# Altium schematic symbol library Diodes.Schlib: 9 symbols
Pins are listed as number, name and electrical type; pins without a type are passive.

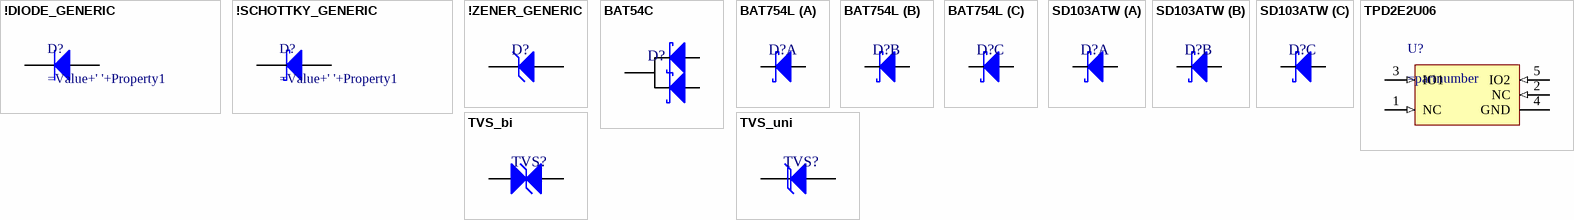
[diagram p0: symbols !DIODE_GENERIC to TVS_uni]

## !DIODE_GENERIC
designator D?
pins: 1 K, 2 A

## !SCHOTTKY_GENERIC
designator D?
pins: 1 K, 2 A
1 alternate drawing of the same symbol

## !ZENER_GENERIC
designator D?
pins: 1 K, 2 A
1 alternate drawing of the same symbol

## BAT54C
designator D?
pins: 1 A, 2 A, 3 K
1 alternate drawing of the same symbol

## BAT754L
designator D?
part A pins: 1 A, 6 K
part B pins: 2 A, 5 K
part C pins: 3 A, 4 K
1 alternate drawing of the same symbol

## SD103ATW
designator D?
part A pins: 1 K, 6 A
part B pins: 2 K, 5 A
part C pins: 3 K, 4 A
1 alternate drawing of the same symbol

## TPD2E2U06
designator U?
pins: 1 NC (in), 2 NC (in), 3 IO1 (in), 4 GND (power), 5 IO2 (in)

## TVS_bi
designator TVS?
pins: 1 K, 2 A
1 alternate drawing of the same symbol

## TVS_uni
designator TVS?
pins: 1 K, 2 A
1 alternate drawing of the same symbol